# Altium footprint library QUTMS_SteeringWheel.PcbLib: 2 footprints
Each footprint in its own frame and in the unit in brackets; x right, y up, seen from the top. Pads: shape width x height; smd on the part's side, far side on the other; paste and mask are expansions set on the pad; w line width, h text height; cw(c..) or ccw(c..) is an arc to the next point about the centre after c.
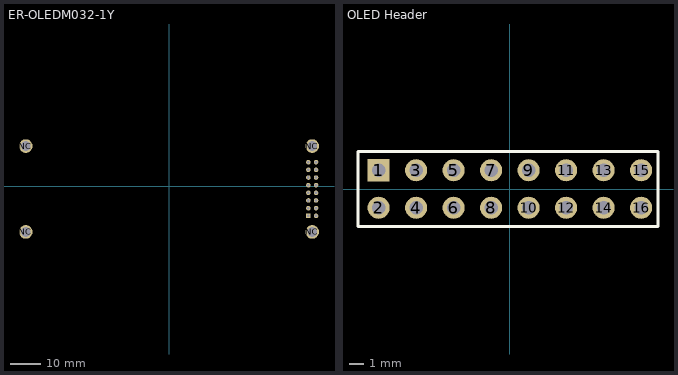
[diagram p0: the footprints below, top view; thin cyan lines are the x and y axes]

## ER-OLEDM032-1Y [mm] "SPI 3.2 inch OLED Module Display 256x64 Panel Screen,Yellow on Black"
pads (20):
  rect 1.5x1.5 hole 0.9: 1(46.228,-9.779)
  round 1.5 hole 0.9: 2(48.768,-9.779) 3(46.228,-7.239) 4(48.768,-7.239) 5(46.228,-4.699) 6(48.768,-4.699) 7(46.228,-2.159) 8(48.768,-2.159) 9(46.228,0.381) 10(48.768,0.381) 11(46.228,2.921) 12(48.768,2.921) 13(46.228,5.461) 14(48.768,5.461) 15(46.228,8.001) 16(48.768,8.001)
  round 4.5 hole 3.2: NC(-47.502,13.361) NC(-47.502,-15.139) NC(47.498,-15.139) NC(47.498,13.361)
3D body: height 17.8, standoff 8, extent -50.292,-17.698 50.292,15.894

## OLED Header [mm]
pads (16):
  rect 1.5x1.5 hole 0.9: 1(-8.89,1.27)
  round 1.5 hole 0.9: 2(-8.89,-1.27) 3(-6.35,1.27) 4(-6.35,-1.27) 5(-3.81,1.27) 6(-3.81,-1.27) 7(-1.27,1.27) 8(-1.27,-1.27) 9(1.27,1.27) 10(1.27,-1.27) 11(3.81,1.27) 12(3.81,-1.27) 13(6.35,1.27) 14(6.35,-1.27) 15(8.89,1.27) 16(8.89,-1.27)
Top Overlay:
  lines w0.2: -10.287,-2.54 -10.287,2.54 10.033,2.54 10.033,-2.54 -10.287,-2.54